# EAGLE library part NOKIA_LCD (library lcd1202)
1.3" b/w graphics display 96x68 pixel. From Nokia 1202 cell phone 1.8" color graphics display 128x160 pixel. From Nokia 1616 cell phone
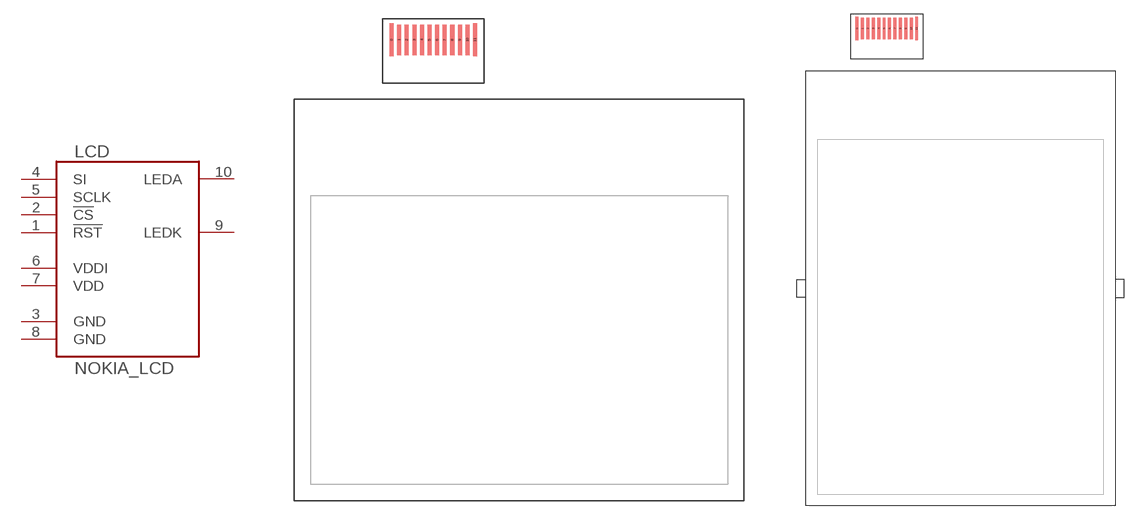
[diagram p0: symbol with the pads of NOKIA1202LCD-EXT; footprints NOKIA1202LCD-EXT, NOKIA1616LCD]

Designator prefix LCD

## NOKIA_LCD_1202  [NOKIA1202LCD-EXT]
1  !RST  in
2  !CS  in
3  GND  pwr
4  SI  in
5  SCLK  in
6  VDDI  pwr
7  VDD  pwr
8  GND  pwr
9  LEDK  pas
10  LEDA  pas

## NOKIA_LCD_1616  [NOKIA1616LCD]
Pads as for NOKIA1202LCD-EXT

## Footprint NOKIA1202LCD-EXT (pad centres in mm)
smd 0.32 x 2.6: 0 -10.09,23.749; 11 -3.49,23.749
smd 0.32 x 2.4: 1 -9.49,23.749; 2 -8.89,23.749; 3 -8.29,23.749; 4 -7.69,23.749; 5 -7.09,23.749; 6 -6.49,23.749; 7 -5.89,23.749; 8 -5.29,23.749; 9 -4.69,23.749; 10 -4.09,23.749

## Footprint NOKIA1616LCD (pad centres in mm)
smd 0.32 x 2.6: 0 -11.455,28.829; 11 -4.855,28.829
smd 0.32 x 2.4: 1 -10.855,28.829; 2 -10.255,28.829; 3 -9.655,28.829; 4 -9.055,28.829; 5 -8.455,28.829; 6 -7.855,28.829; 7 -7.255,28.829; 8 -6.655,28.829; 9 -6.055,28.829; 10 -5.455,28.829